# Altium integrated library TPSM82913RDUR.IntLib: 1 symbol
Pins are listed as number, name and electrical type; pins without a type are passive.

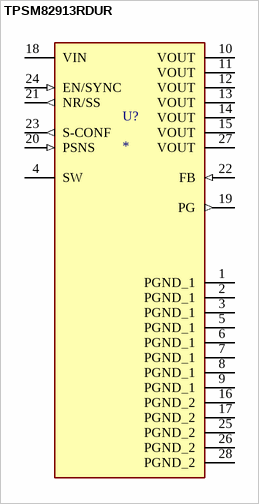
[diagram p0: symbol TPSM82913RDUR]

## TPSM82913RDUR
designator U?
17-V VIN, 3-A low-noise and low-ripple buck module with integrated ferrite bead filter compensation; MF: Texas Instruments; MP: TPSM82913RDUR; SnapEDA_Link: https://www.snapeda.com/parts/TPSM82913RDUR/Texas+Instruments/view-part/?ref=snap; Package: PowerQFN-28 Texas Instruments; Value: *; Check_prices: https://www.snapeda.com/parts/TPSM82913RDUR/Texas+Instruments/view-part/?ref=eda
footprint CONV_TPSM82913RDUR
pins: 1 PGND_1 (power), 2 PGND_1 (power), 3 PGND_1 (power), 4 SW, 5 PGND_1 (power), 6 PGND_1 (power), 7 PGND_1 (power), 8 PGND_1 (power), 9 PGND_1 (power), 10 VOUT (power), 11 VOUT (power), 12 VOUT (power), 13 VOUT (power), 14 VOUT (power), 15 VOUT (power), 16 PGND_2 (power), 17 PGND_2 (power), 18 VIN (power), 19 PG (out), 20 PSNS (in), 21 NR/SS (out), 22 FB (in), 23 S-CONF (out), 24 EN/SYNC (in), 25 PGND_2 (power), 26 PGND_2 (power), 27 VOUT (power), 28 PGND_2 (power)